# Altium footprint library Packages_QFN.PcbLib: 1 footprints
Each footprint in its own frame and in the unit in brackets; x right, y up, seen from the top. Pads: shape width x height; smd on the part's side, far side on the other; paste and mask are expansions set on the pad; w line width, h text height; cw(c..) or ccw(c..) is an arc to the next point about the centre after c.
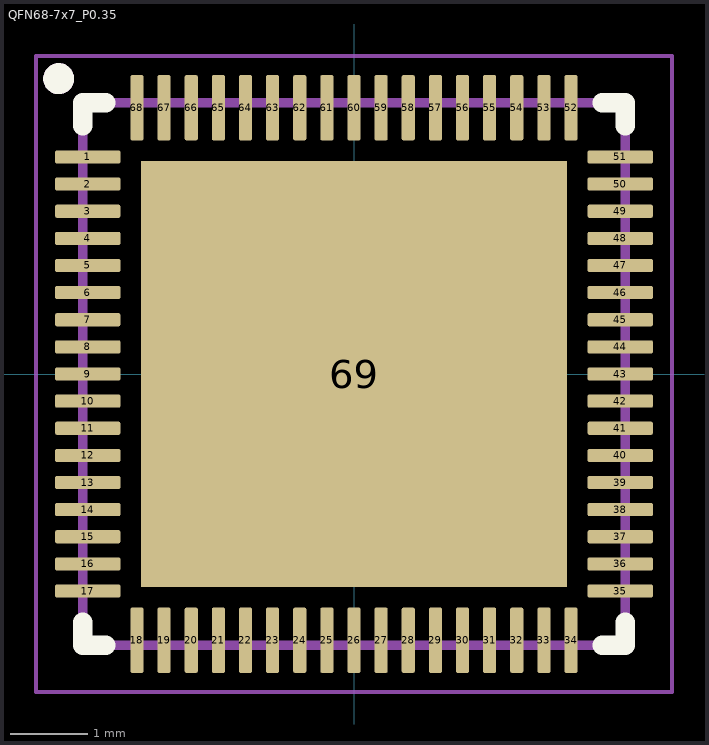
[diagram p0: the footprint, top view; thin cyan lines are the x and y axes]

## QFN68-7x7_P0.35 [mm]
height 0.8
pads (69):
  rrect25% 0.84x0.17 smd: 1(-3.435,2.8) 2(-3.435,2.45) 3(-3.435,2.1) 4(-3.435,1.75) 5(-3.435,1.4) 6(-3.435,1.05) 7(-3.435,0.7) 8(-3.435,0.35) 9(-3.435,0) 10(-3.435,-0.35) 11(-3.435,-0.7) 12(-3.435,-1.05) 13(-3.435,-1.4) 14(-3.435,-1.75) 15(-3.435,-2.1) 16(-3.435,-2.45) 17(-3.435,-2.8) 35(3.435,-2.8) 36(3.435,-2.45) 37(3.435,-2.1) 38(3.435,-1.75) 39(3.435,-1.4) 40(3.435,-1.05) 41(3.435,-0.7) 42(3.435,-0.35) 43(3.435,0) 44(3.435,0.35) 45(3.435,0.7) 46(3.435,1.05) 47(3.435,1.4) 48(3.435,1.75) 49(3.435,2.1) 50(3.435,2.45) 51(3.435,2.8)
  rrect25% 0.17x0.84 smd: 18(-2.8,-3.435) 19(-2.45,-3.435) 20(-2.1,-3.435) 21(-1.75,-3.435) 22(-1.4,-3.435) 23(-1.05,-3.435) 24(-0.7,-3.435) 25(-0.35,-3.435) 26(0,-3.435) 27(0.35,-3.435) 28(0.7,-3.435) 29(1.05,-3.435) 30(1.4,-3.435) 31(1.75,-3.435) 32(2.1,-3.435) 33(2.45,-3.435) 34(2.8,-3.435) 52(2.8,3.435) 53(2.45,3.435) 54(2.1,3.435) 55(1.75,3.435) 56(1.4,3.435) 57(1.05,3.435) 58(0.7,3.435) 59(0.35,3.435) 60(0,3.435) 61(-0.35,3.435) 62(-0.7,3.435) 63(-1.05,3.435) 64(-1.4,3.435) 65(-1.75,3.435) 66(-2.1,3.435) 67(-2.45,3.435) 68(-2.8,3.435)
  rect 5.49x5.49 smd paste-4: 69(0,0)
Top Overlay:
  circle w0.2: c-3.81,3.81 r0.1
  lines w0.25: -3.5,-3.205 -3.5,-3.5 -3.205,-3.5 ; -3.5,3.205 -3.5,3.5 -3.205,3.5 ; 3.205,-3.5 3.5,-3.5 3.5,-3.205 ; 3.205,3.5 3.5,3.5 3.5,3.205
Top Paste:
  region: -0.505,0.505 -2.245,0.505 -2.245,2.245 -0.505,2.245
  region: 2.245,0.505 0.505,0.505 0.505,2.245 2.245,2.245
  region: -0.505,-2.245 -2.245,-2.245 -2.245,-0.505 -0.505,-0.505
  region: 2.245,-2.245 0.505,-2.245 0.505,-0.505 2.245,-0.505
Mechanical 13:
  circle w0.2: c-3.81,3.81 r0.1
  lines w0.127: -3.5,-3.5 -3.5,3.5 3.5,3.5 3.5,-3.5 -3.5,-3.5
Mechanical 15:
  lines w0.05: -0.225,0 0.225,0 ; 0,-0.2 0,0.2 ; -4.105,-4.105 -4.105,4.105 4.105,4.105 4.105,-4.105 -4.105,-4.105
3D body "step_temp.STEP": height 0.8, standoff 0, extent -3.5,-3.5 3.5,3.5